# Altium schematic symbol library EMI_FLTR.SchLib: 1 symbol
Pins are listed as number, name and electrical type; pins without a type are passive.

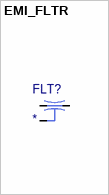
[diagram p0: symbol EMI_FLTR]

## EMI_FLTR
designator FLT?
pins: 1 IN, 2 GND, 3 OUT